# Altium integrated library Cypress PSoC 1.IntLib: 188 symbols (part 11 of 11)
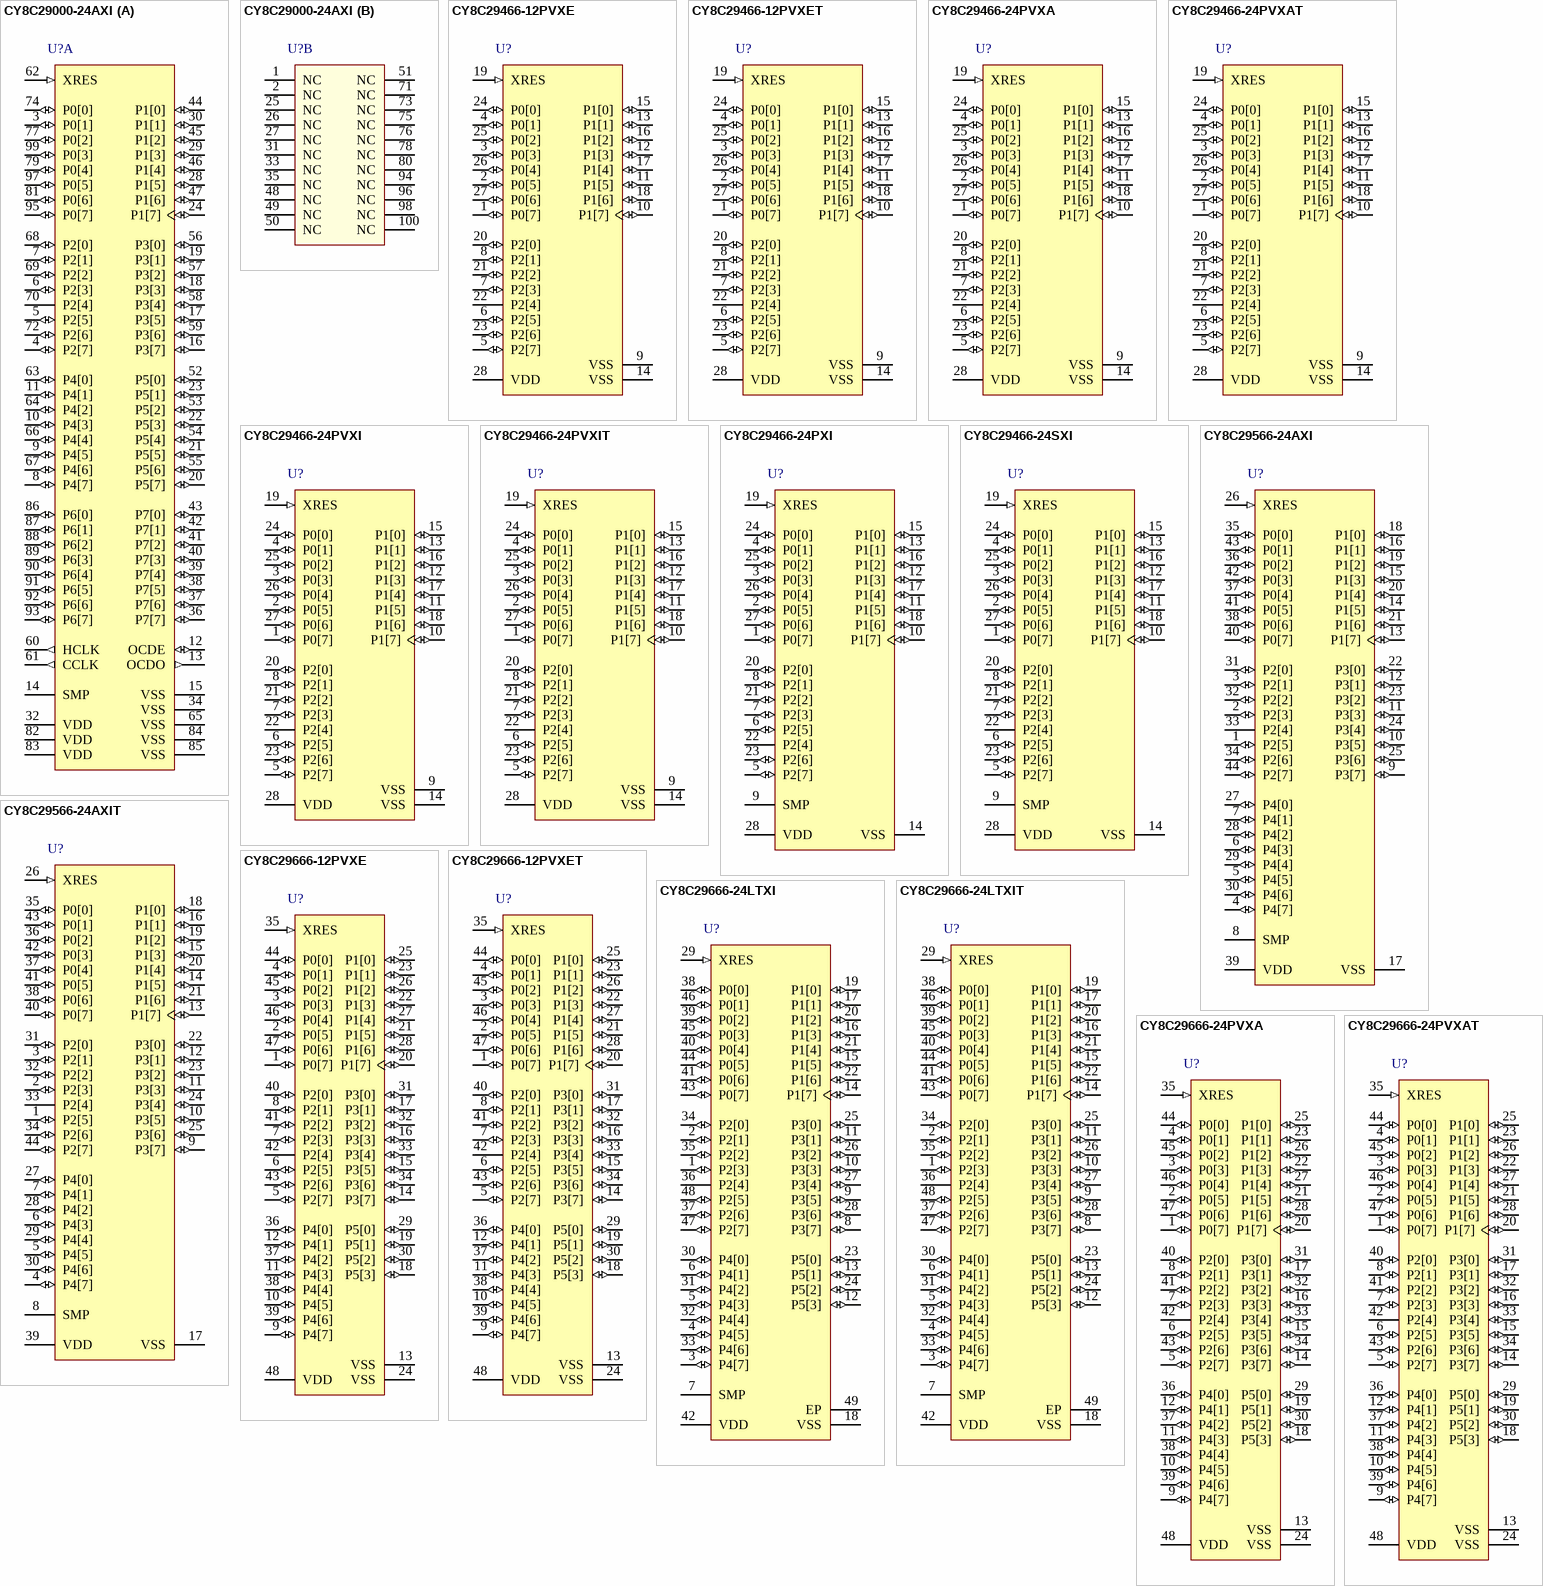
[diagram p21: symbols CY8C29000-24AXI to CY8C29666-24PVXAT]

## CY8C29666-24LTXIT
designator U?
PSoC Programmable System-on-Chip, 32 KB Flash, 44 GPIOs, 3.00 to 5.25 V, 48-Pin QFN (LT48A), Tape and Reel; Manufacturer: Cypress; PartNumber: CY8C29666-24LTXIT; Flash (KB): 32; Max. Operating Voltage (V): 5.25; Min. Operating Voltage (V): 3.00; No. of Programmable Digital Blocks: 16; DatasheetVersion: Rev. *X; PackageReference: LTX48; PackageDescription: 48-Pin Sawn QFN, Body 7 x 7 mm, Pitch 0.5 mm; Supplier 1: Digi-Key; Supplier Part Number 1: CY8C29666-24LTXIT-ND; Supplier 2: Mouser; Supplier Part Number 2: 727-CY8C2966624LTXIT; Mounting Technology: Surface Mount; Code_JEDEC: MO-220; ComponentLink1Description: Manufacturer URL; ComponentLink1URL: http://www.cypress.com/; ComponentLink2Description: Datasheet; ComponentLink2URL: http://www.cypress.com/?docID=49191; ComponentLink3Description: Package Specification; ComponentLink3URL: http://www.cypress.com/?docID=40402; ComponentLink4Description: Product URL; ComponentLink4URL: http://www.cypress.com/?rID=3334
footprint CYP-LTX48_N (QFN, 48-Leads, Body 7x7mm, Pitch 0.5mm, Thermal Pad 5.1x5.1mm, IPC Medium Density)
footprint CYP-LTX48_L (QFN, 48-Leads, Body 7x7mm, Pitch 0.5mm, Thermal Pad 5.1x5.1mm, IPC High Density)
footprint CYP-LTX48_M (QFN, 48-Leads, Body 7x7mm, Pitch 0.5mm, Thermal Pad 5.1x5.1mm, IPC Low Density)
pins: 1 P2[3] (io) "Direct switched capacitor block input", 2 P2[1] (io) "Direct switched capacitor block input", 3 P4[7] (io), 4 P4[5] (io), 5 P4[3] (io), 6 P4[1] (io), 7 SMP (power) "Switch mode pump (SMP) connection to external components required", 8 P3[7] (io), 9 P3[5] (io), 10 P3[3] (io), 11 P3[1] (io), 12 P5[3] (io), 13 P5[1] (io), 14 P1[7] (io) "I2C SCL", 15 P1[5] (io) "I2C SDA", 16 P1[3] (io), 17 P1[1] (io) "Crystal (XTALin), I2C SCL, ISSP-SCLK", 18 VSS (power) "Ground connection", 19 P1[0] (io) "Crystal (XTALout), I2C SDA, ISSP-SDATA", 20 P1[2] (io), 21 P1[4] (io) "Optional EXTCLK", 22 P1[6] (io), 23 P5[0] (io), 24 P5[2] (io), 25 P3[0] (io), 26 P3[2] (io), 27 P3[4] (io), 28 P3[6] (io), 29 XRES (in) "Active high external reset with internal pull-down", 30 P4[0] (io), 31 P4[2] (io), 32 P4[4] (io), 33 P4[6] (io), 34 P2[0] (io) "Direct switched capacitor block input", 35 P2[2] (io) "Direct switched capacitor block input", 36 P2[4] (power) "External analog ground (AGND)", 37 P2[6] (io) "External voltage reference (VREF)", 38 P0[0] (io) "Analog column mux input", 39 P0[2] (io) "Analog column mux input and column output", 40 P0[4] (io) "Analog column mux input and column output", 41 P0[6] (io) "Analog column mux input", 42 VDD (power) "Supply voltage", 43 P0[7] (io) "Analog column mux input", 44 P0[5] (io) "Analog column mux input and column output", 45 P0[3] (io) "Analog column mux input and column output", 46 P0[1] (io) "Analog column mux input", 47 P2[7] (io), 48 P2[5] (io), 49 EP (power)

## CY8C29666-24PVXA
designator U?
Automotive PSoC Programmable System-on-Chip, 32 KB Flash, 44 GPIOs, 3.00 to 5.25 V, 48-Pin SSOP (O483); Manufacturer: Cypress; PartNumber: CY8C29666-24PVXA; Flash (KB): 32; Max. Operating Voltage (V): 5.25; Min. Operating Voltage (V): 3.00; No. of Programmable Digital Blocks: 16; DatasheetVersion: Rev. *G; PackageVersion: *D; PackageReference: PVX48; PackageDescription: 48-Pin Shrunk Small Outline Package, Body 15.88 x 7.51 mm, Pitch 0.64 mm; Supplier 1: Digi-Key; Supplier Part Number 1: 428-3076-5-ND; Supplier 2: Mouser; Supplier Part Number 2: 727-CY8C29666-24PVXA; Mounting Technology: Surface Mount; ComponentLink1Description: Manufacturer URL; ComponentLink1URL: http://www.cypress.com/; ComponentLink2Description: Datasheet; ComponentLink2URL: http://www.cypress.com/?docID=34522; ComponentLink3Description: Package Specification; ComponentLink3URL: http://www.cypress.com/?docID=39235; ComponentLink4Description: Product URL; ComponentLink4URL: http://www.cypress.com/?rID=37551
footprint CYP-PVX48_N (SOP, 48-Leads, Body 15.88x7.51mm, Pitch 0.635mm, IPC Medium Density)
footprint CYP-PVX48_L (SOP, 48-Leads, Body 15.88x7.51mm, Pitch 0.635mm, IPC High Density)
footprint CYP-PVX48_M (SOP, 48-Leads, Body 15.88x7.51mm, Pitch 0.635mm, IPC Low Density)
pins: 1 P0[7] (io) "Analog column mux input", 2 P0[5] (io) "Analog column mux input and column output", 3 P0[3] (io) "Analog column mux input and column output", 4 P0[1] (io) "Analog column mux input", 5 P2[7] (io), 6 P2[5] (io), 7 P2[3] (io) "Direct switched capacitor block input", 8 P2[1] (io) "Direct switched capacitor block input", 9 P4[7] (io), 10 P4[5] (io), 11 P4[3] (io), 12 P4[1] (io), 13 VSS (power) "Ground connection", 14 P3[7] (io), 15 P3[5] (io), 16 P3[3] (io), 17 P3[1] (io), 18 P5[3] (io), 19 P5[1] (io), 20 P1[7] (io) "I2C serial clock (SCL)", 21 P1[5] (io) "I2C serial data (SDA)", 22 P1[3] (io), 23 P1[1] (io) "Crystal input (XTALin), I2C serial clock (SCL), ISSP-SCLK", 24 VSS (power) "Ground connection", 25 P1[0] (io) "Crystal output (XTALout), I2C Serial Data (SDA), ISSP-SDATA", 26 P1[2] (io), 27 P1[4] (io) "Optional external clock (EXTCLK) input", 28 P1[6] (io), 29 P5[0] (io), 30 P5[2] (io), 31 P3[0] (io), 32 P3[2] (io), 33 P3[4] (io), 34 P3[6] (io), 35 XRES (in) "Active high external reset with internal pull-down", 36 P4[0] (io), 37 P4[2] (io), 38 P4[4] (io), 39 P4[6] (io), 40 P2[0] (io) "Direct switched capacitor block input", 41 P2[2] (io) "Direct switched capacitor block input", 42 P2[4] (power) "External analog ground (AGND)", 43 P2[6] (io) "External voltage reference (VREF)", 44 P0[0] (io) "Analog column mux input", 45 P0[2] (io) "Analog column mux input and column output", 46 P0[4] (io) "Analog column mux input and column output", 47 P0[6] (io) "Analog column mux input", 48 VDD (power) "Supply voltage"

## CY8C29666-24PVXAT
designator U?
Automotive PSoC Programmable System-on-Chip, 32 KB Flash, 44 GPIOs, 3.00 to 5.25 V, 48-Pin SSOP (O483), Tape and Reel; Manufacturer: Cypress; PartNumber: CY8C29666-24PVXAT; Flash (KB): 32; Max. Operating Voltage (V): 5.25; Min. Operating Voltage (V): 3.00; No. of Programmable Digital Blocks: 16; DatasheetVersion: Rev. *G; PackageVersion: *D; PackageReference: PVX48; PackageDescription: 48-Pin Shrunk Small Outline Package, Body 15.88 x 7.51 mm, Pitch 0.64 mm; Supplier 1: Digi-Key; Supplier Part Number 1: CY8C29666-24PVXAT-ND; Supplier 2: Mouser; Supplier Part Number 2: 727-CY8C2966624PVXAT; Mounting Technology: Surface Mount; ComponentLink1Description: Manufacturer URL; ComponentLink1URL: http://www.cypress.com/; ComponentLink2Description: Datasheet; ComponentLink2URL: http://www.cypress.com/?docID=34522; ComponentLink3Description: Package Specification; ComponentLink3URL: http://www.cypress.com/?docID=39235; ComponentLink4Description: Product URL; ComponentLink4URL: http://www.cypress.com/?rID=37551
footprint CYP-PVX48_N (SOP, 48-Leads, Body 15.88x7.51mm, Pitch 0.635mm, IPC Medium Density)
footprint CYP-PVX48_L (SOP, 48-Leads, Body 15.88x7.51mm, Pitch 0.635mm, IPC High Density)
footprint CYP-PVX48_M (SOP, 48-Leads, Body 15.88x7.51mm, Pitch 0.635mm, IPC Low Density)
pins: 1 P0[7] (io) "Analog column mux input", 2 P0[5] (io) "Analog column mux input and column output", 3 P0[3] (io) "Analog column mux input and column output", 4 P0[1] (io) "Analog column mux input", 5 P2[7] (io), 6 P2[5] (io), 7 P2[3] (io) "Direct switched capacitor block input", 8 P2[1] (io) "Direct switched capacitor block input", 9 P4[7] (io), 10 P4[5] (io), 11 P4[3] (io), 12 P4[1] (io), 13 VSS (power) "Ground connection", 14 P3[7] (io), 15 P3[5] (io), 16 P3[3] (io), 17 P3[1] (io), 18 P5[3] (io), 19 P5[1] (io), 20 P1[7] (io) "I2C serial clock (SCL)", 21 P1[5] (io) "I2C serial data (SDA)", 22 P1[3] (io), 23 P1[1] (io) "Crystal input (XTALin), I2C serial clock (SCL), ISSP-SCLK", 24 VSS (power) "Ground connection", 25 P1[0] (io) "Crystal output (XTALout), I2C Serial Data (SDA), ISSP-SDATA", 26 P1[2] (io), 27 P1[4] (io) "Optional external clock (EXTCLK) input", 28 P1[6] (io), 29 P5[0] (io), 30 P5[2] (io), 31 P3[0] (io), 32 P3[2] (io), 33 P3[4] (io), 34 P3[6] (io), 35 XRES (in) "Active high external reset with internal pull-down", 36 P4[0] (io), 37 P4[2] (io), 38 P4[4] (io), 39 P4[6] (io), 40 P2[0] (io) "Direct switched capacitor block input", 41 P2[2] (io) "Direct switched capacitor block input", 42 P2[4] (power) "External analog ground (AGND)", 43 P2[6] (io) "External voltage reference (VREF)", 44 P0[0] (io) "Analog column mux input", 45 P0[2] (io) "Analog column mux input and column output", 46 P0[4] (io) "Analog column mux input and column output", 47 P0[6] (io) "Analog column mux input", 48 VDD (power) "Supply voltage"

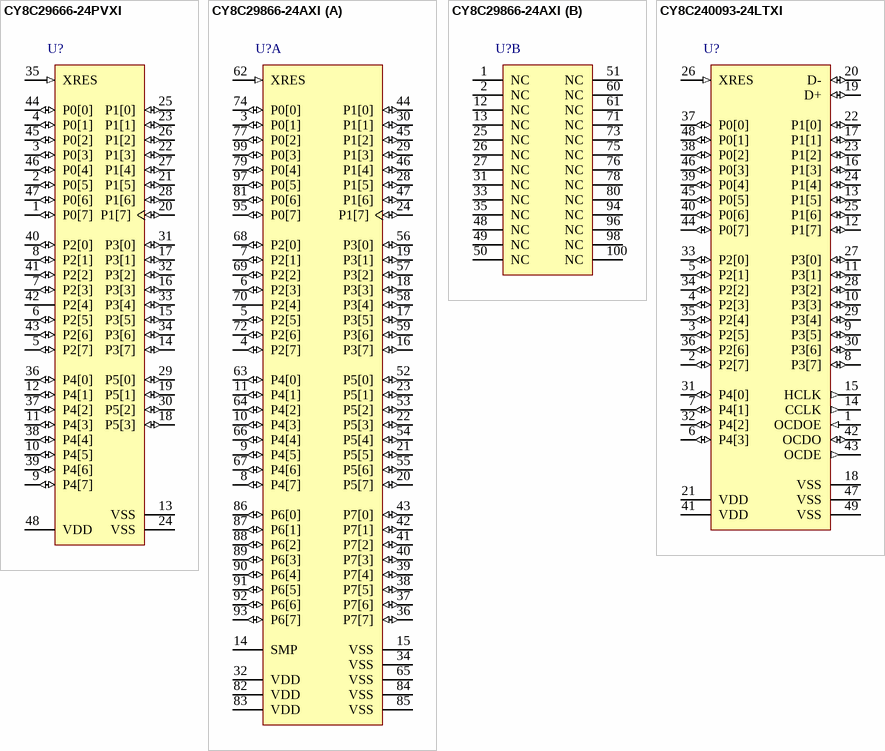
[diagram p11: symbols CY8C29666-24PVXI to CY8C240093-24LTXI]

## CY8C29666-24PVXI
designator U?
PSoC Programmable System-on-Chip, 32 KB Flash, 44 GPIOs, 3.00 to 5.25 V, 48-Pin SSOP (O483); Manufacturer: Cypress; PartNumber: CY8C29666-24PVXI; Flash (KB): 32; Max. Operating Voltage (V): 5.25; Min. Operating Voltage (V): 3.00; No. of Programmable Digital Blocks: 16; DatasheetVersion: Rev. *X; PackageVersion: *D; PackageReference: PVX48; PackageDescription: 48-Pin Shrunk Small Outline Package, Body 15.88 x 7.51 mm, Pitch 0.64 mm; Supplier 1: Digi-Key; Supplier Part Number 1: 428-1590-ND; Supplier 2: Farnell; Supplier Part Number 2: 1267197; Supplier 3: Newark; Supplier Part Number 3: 19M7238; Supplier 4: Mouser; Supplier Part Number 4: 727-CY8C2966624PVXI; Mounting Technology: Surface Mount; ComponentLink1Description: Manufacturer URL; ComponentLink1URL: http://www.cypress.com/; ComponentLink2Description: Datasheet; ComponentLink2URL: http://www.cypress.com/?docID=49191; ComponentLink3Description: Package Specification; ComponentLink3URL: http://www.cypress.com/?docID=39235; ComponentLink4Description: Product URL; ComponentLink4URL: http://www.cypress.com/?rID=3334
footprint CYP-PVX48_N (SOP, 48-Leads, Body 15.88x7.51mm, Pitch 0.635mm, IPC Medium Density)
footprint CYP-PVX48_L (SOP, 48-Leads, Body 15.88x7.51mm, Pitch 0.635mm, IPC High Density)
footprint CYP-PVX48_M (SOP, 48-Leads, Body 15.88x7.51mm, Pitch 0.635mm, IPC Low Density)
pins: 1 P0[7] (io) "Analog column mux input", 2 P0[5] (io) "Analog column mux input and column output", 3 P0[3] (io) "Analog column mux input and column output", 4 P0[1] (io) "Analog column mux input", 5 P2[7] (io), 6 P2[5] (io), 7 P2[3] (io) "Direct switched capacitor block input", 8 P2[1] (io) "Direct switched capacitor block input", 9 P4[7] (io), 10 P4[5] (io), 11 P4[3] (io), 12 P4[1] (io), 13 VSS (power) "Ground connection", 14 P3[7] (io), 15 P3[5] (io), 16 P3[3] (io), 17 P3[1] (io), 18 P5[3] (io), 19 P5[1] (io), 20 P1[7] (io) "I2C serial clock (SCL)", 21 P1[5] (io) "I2C serial data (SDA)", 22 P1[3] (io), 23 P1[1] (io) "Crystal input (XTALin), I2C serial clock (SCL), ISSP-SCLK", 24 VSS (power) "Ground connection", 25 P1[0] (io) "Crystal output (XTALout), I2C Serial Data (SDA), ISSP-SDATA", 26 P1[2] (io), 27 P1[4] (io) "Optional external clock (EXTCLK) input", 28 P1[6] (io), 29 P5[0] (io), 30 P5[2] (io), 31 P3[0] (io), 32 P3[2] (io), 33 P3[4] (io), 34 P3[6] (io), 35 XRES (in) "Active high external reset with internal pull-down", 36 P4[0] (io), 37 P4[2] (io), 38 P4[4] (io), 39 P4[6] (io), 40 P2[0] (io) "Direct switched capacitor block input", 41 P2[2] (io) "Direct switched capacitor block input", 42 P2[4] (power) "External analog ground (AGND)", 43 P2[6] (io) "External voltage reference (VREF)", 44 P0[0] (io) "Analog column mux input", 45 P0[2] (io) "Analog column mux input and column output", 46 P0[4] (io) "Analog column mux input and column output", 47 P0[6] (io) "Analog column mux input", 48 VDD (power) "Supply voltage"

## CY8C29866-24AXI
designator U?
PSoC Programmable System-on-Chip, 32 KB Flash, 64 GPIOs, 3.00 to 5.25 V, 100-Pin TQFP (A100SA); Manufacturer: Cypress; PartNumber: CY8C29866-24AXI; Flash (KB): 32; Max. Operating Voltage (V): 5.25; Min. Operating Voltage (V): 3.00; No. of Programmable Digital Blocks: 16; DatasheetVersion: Rev. *X; PackageVersion: *D; PackageReference: AX100; PackageDescription: 100-Pin Thin Plastic Quad Flatpack, Body 14 x14 mm, Pitch 0.5 mm; Supplier 1: Digi-Key; Supplier Part Number 1: 428-1592-ND; Supplier 2: Farnell; Supplier Part Number 2: 1267199; Supplier 3: Farnell; Supplier Part Number 3: 1267199MPKG; Supplier 4: Newark; Supplier Part Number 4: 19M7240; Supplier 5: Mouser; Supplier Part Number 5: 727-CY8C2986624AXI; Mounting Technology: Surface Mount; Code_JEDEC: MS-026; ComponentLink1Description: Manufacturer URL; ComponentLink1URL: http://www.cypress.com/; ComponentLink2Description: Datasheet; ComponentLink2URL: http://www.cypress.com/?docID=49191; ComponentLink3Description: Package Specification; ComponentLink3URL: http://www.cypress.com/?docID=35576; ComponentLink4Description: Product URL; ComponentLink4URL: http://www.cypress.com/?rID=3334
footprint CYP-AX100_N (QFN, 100-Leads, Body 14x14mm, Pitch 0.5mm, IPC Medium Density)
footprint CYP-AX100_L (QFN, 100-Leads, Body 14x14mm, Pitch 0.5mm, IPC High Density)
footprint CYP-AX100_M (QFN, 100-Leads, Body 14x14mm, Pitch 0.5mm, IPC Low Density)
part A pins: 3 P0[1] (io) "Analog column mux input", 4 P2[7] (io), 5 P2[5] (io), 6 P2[3] (io) "Direct switched capacitor block input", 7 P2[1] (io) "Direct switched capacitor block input", 8 P4[7] (io), 9 P4[5] (io), 10 P4[3] (io), 11 P4[1] (io), 14 SMP (power) "Switch mode pump (SMP) connection to external components required", 15 VSS (power) "Ground connection", 16 P3[7] (io), 17 P3[5] (io), 18 P3[3] (io), 19 P3[1] (io), 20 P5[7] (io), 21 P5[5] (io), 22 P5[3] (io), 23 P5[1] (io), 24 P1[7] (io) "I2C SCL", 28 P1[5] (io) "I2C SDA", 29 P1[3] (io), 30 P1[1] (io) "Crystal (XTALin), I2C Serial Clock (SCL), ISSP-SCLK", 32 VDD (power) "Supply voltage", 34 VSS (power) "Ground connection", 36 P7[7] (io), 37 P7[6] (io), 38 P7[5] (io), 39 P7[4] (io), 40 P7[3] (io), 41 P7[2] (io), 42 P7[1] (io), 43 P7[0] (io), 44 P1[0] (io) "Crystal (XTALout), I2C Serial Data (SDA), ISSP-SDATA", 45 P1[2] (io), 46 P1[4] (io) "Optional EXTCLK", 47 P1[6] (io), 52 P5[0] (io), 53 P5[2] (io), 54 P5[4] (io), 55 P5[6] (io), 56 P3[0] (io), 57 P3[2] (io), 58 P3[4] (io), 59 P3[6] (io), 62 XRES (in) "Active high external reset with internal pull-down", 63 P4[0] (io), 64 P4[2] (io), 65 VSS (power) "Ground connection", 66 P4[4] (io), 67 P4[6] (io), 68 P2[0] (io) "Direct switched capacitor block input", 69 P2[2] (io) "Direct switched capacitor block input", 70 P2[4] (power) "External Analog Ground (AGND)", 72 P2[6] (io) "External Voltage Reference (VREF)", 74 P0[0] (io) "Analog column mux input", 77 P0[2] (io) "Analog column mux input and column output", 79 P0[4] (io) "Analog column mux input and column output", 81 P0[6] (io) "Analog column mux input", 82 VDD (power) "Supply voltage", 83 VDD (power) "Supply voltage", 84 VSS (power) "Ground connection", 85 VSS (power) "Ground connection", 86 P6[0] (io), 87 P6[1] (io), 88 P6[2] (io), 89 P6[3] (io), 90 P6[4] (io), 91 P6[5] (io), 92 P6[6] (io), 93 P6[7] (io), 95 P0[7] (io) "Analog column mux input", 97 P0[5] (io) "Analog column mux input and column output", 99 P0[3] (io) "Analog column mux input and column output"
part B pins: 1 NC "No connection", 2 NC "No connection", 12 NC "No connection", 13 NC "No connection", 25 NC "No connection", 26 NC "No connection", 27 NC "No connection", 31 NC "No connection", 33 NC "No connection", 35 NC "No connection", 48 NC "No connection", 49 NC "No connection", 50 NC "No connection", 51 NC "No connection", 60 NC "No connection", 61 NC "No connection", 71 NC "No connection", 73 NC "No connection", 75 NC "No connection", 76 NC "No connection", 78 NC "No connection", 80 NC "No connection", 94 NC "No connection", 96 NC "No connection", 98 NC "No connection", 100 NC "No connection"

## CY8C240093-24LTXI
designator U?
PSoC Programmable System-on-Chip, 32 KB Flash, 36 GPIOs, 1.71 to 5.5 V, 48-Pin QFN (LTX48A), Tray; Manufacturer: Cypress; PartNumber: CY8C240093-24LTXI; Flash (KB): 32; Max. Operating Frequency (MHz): 24; Max. Operating Voltage (V): 5.5; Min. Operating Voltage (V): 1.71; No. of GPIOs: 36; SRAM (KB): 2; DatasheetVersion: Rev. *E; PackageVersion: Rev. *F, 01/2012; PackageReference: LTX48A; PackageDescription: 48-Pin Quad Flat No Lead, Body 7 x 7 mm, Pitch 0.5 mm; Supplier 1: Digi-Key; Supplier Part Number 1: CY8C240093-24LTXI-ND; Supplier 2: Newark; Supplier Part Number 2: 08X4477; Supplier 3: Mouser; Supplier Part Number 3: 727-CY8C24009324LTXI; Max. Operating Temp. (degreesC): 85; Min. Operating Temp. (degreesC): -40; Packing: Tray; RoHS: Pb-Free; Mounting Technology: Surface Mount; Code_JEDEC: MO-220; ComponentLink1Description: Manufacturer URL; ComponentLink1URL: http://www.cypress.com/; ComponentLink2Description: Datasheet; ComponentLink2URL: http://www.cypress.com/?docID=45475; ComponentLink3Description: Package Specification; ComponentLink3URL: http://www.cypress.com/?docID=37398
footprint CYP-LTX48A_N (QFN, 48-Leads, Body 7x7mm, Pitch 0.5mm, Thermal Pad 5.1x5.1mm, IPC Medium Density)
footprint CYP-LTX48A_L (QFN, 48-Leads, Body 7x7mm, Pitch 0.5mm, Thermal Pad 5.1x5.1mm, IPC High Density)
footprint CYP-LTX48A_M (QFN, 48-Leads, Body 7x7mm, Pitch 0.5mm, Thermal Pad 5.1x5.1mm, IPC Low Density)
pins: 1 OCDOE (in) "OCD mode direction pin", 2 P2[7] (io), 3 P2[5] (io) "Crystal output (XOut)", 4 P2[3] (io) "Crystal input (XIn)", 5 P2[1] (io), 6 P4[3] (io), 7 P4[1] (io), 8 P3[7] (io), 9 P3[5] (io), 10 P3[3] (io), 11 P3[1] (io), 12 P1[7] (io) "I2C SCL, SPI SS", 13 P1[5] (io) "I2C SDA, SPI MISO", 14 CCLK (out) "OCD CPU clock output", 15 HCLK (out) "OCD high speed clock output", 16 P1[3] (io) "SPI CLK", 17 P1[1] (io) "ISSP CLK, I2C SCL, SPI MOSI", 18 VSS (power) "Ground connection", 19 D+ (io) "USB D+", 20 D- (io) "USB D-", 21 VDD (power) "Supply voltage", 22 P1[0] (io) "ISSP DATA, I2C SDA, SPI CLK", 23 P1[2] (io), 24 P1[4] (io) "Optional external clock input (EXTCLK)", 25 P1[6] (io), 26 XRES (in) "Active high external reset with internal pull-down", 27 P3[0] (io), 28 P3[2] (io), 29 P3[4] (io), 30 P3[6] (io), 31 P4[0] (io), 32 P4[2] (io), 33 P2[0] (io), 34 P2[2] (io), 35 P2[4] (io), 36 P2[6] (io), 37 P0[0] (io), 38 P0[2] (io), 39 P0[4] (io), 40 P0[6] (io), 41 VDD (power) "Supply voltage", 42 OCDO (io) "OCD even data I/O", 43 OCDE (out) "OCD odd data output", 44 P0[7] (io), 45 P0[5] (io), 46 P0[3] (io), 47 VSS (power) "Ground connection", 48 P0[1] (io), 49 VSS (power) "Center pad must be connected to ground"